# Altium footprint library Passive.PcbLib: 74 footprints (part 3 of 5)
Each footprint in its own frame and in the unit in brackets; x right, y up, seen from the top. Pads: shape width x height; smd on the part's side, far side on the other; paste and mask are expansions set on the pad; w line width, h text height; cw(c..) or ccw(c..) is an arc to the next point about the centre after c.
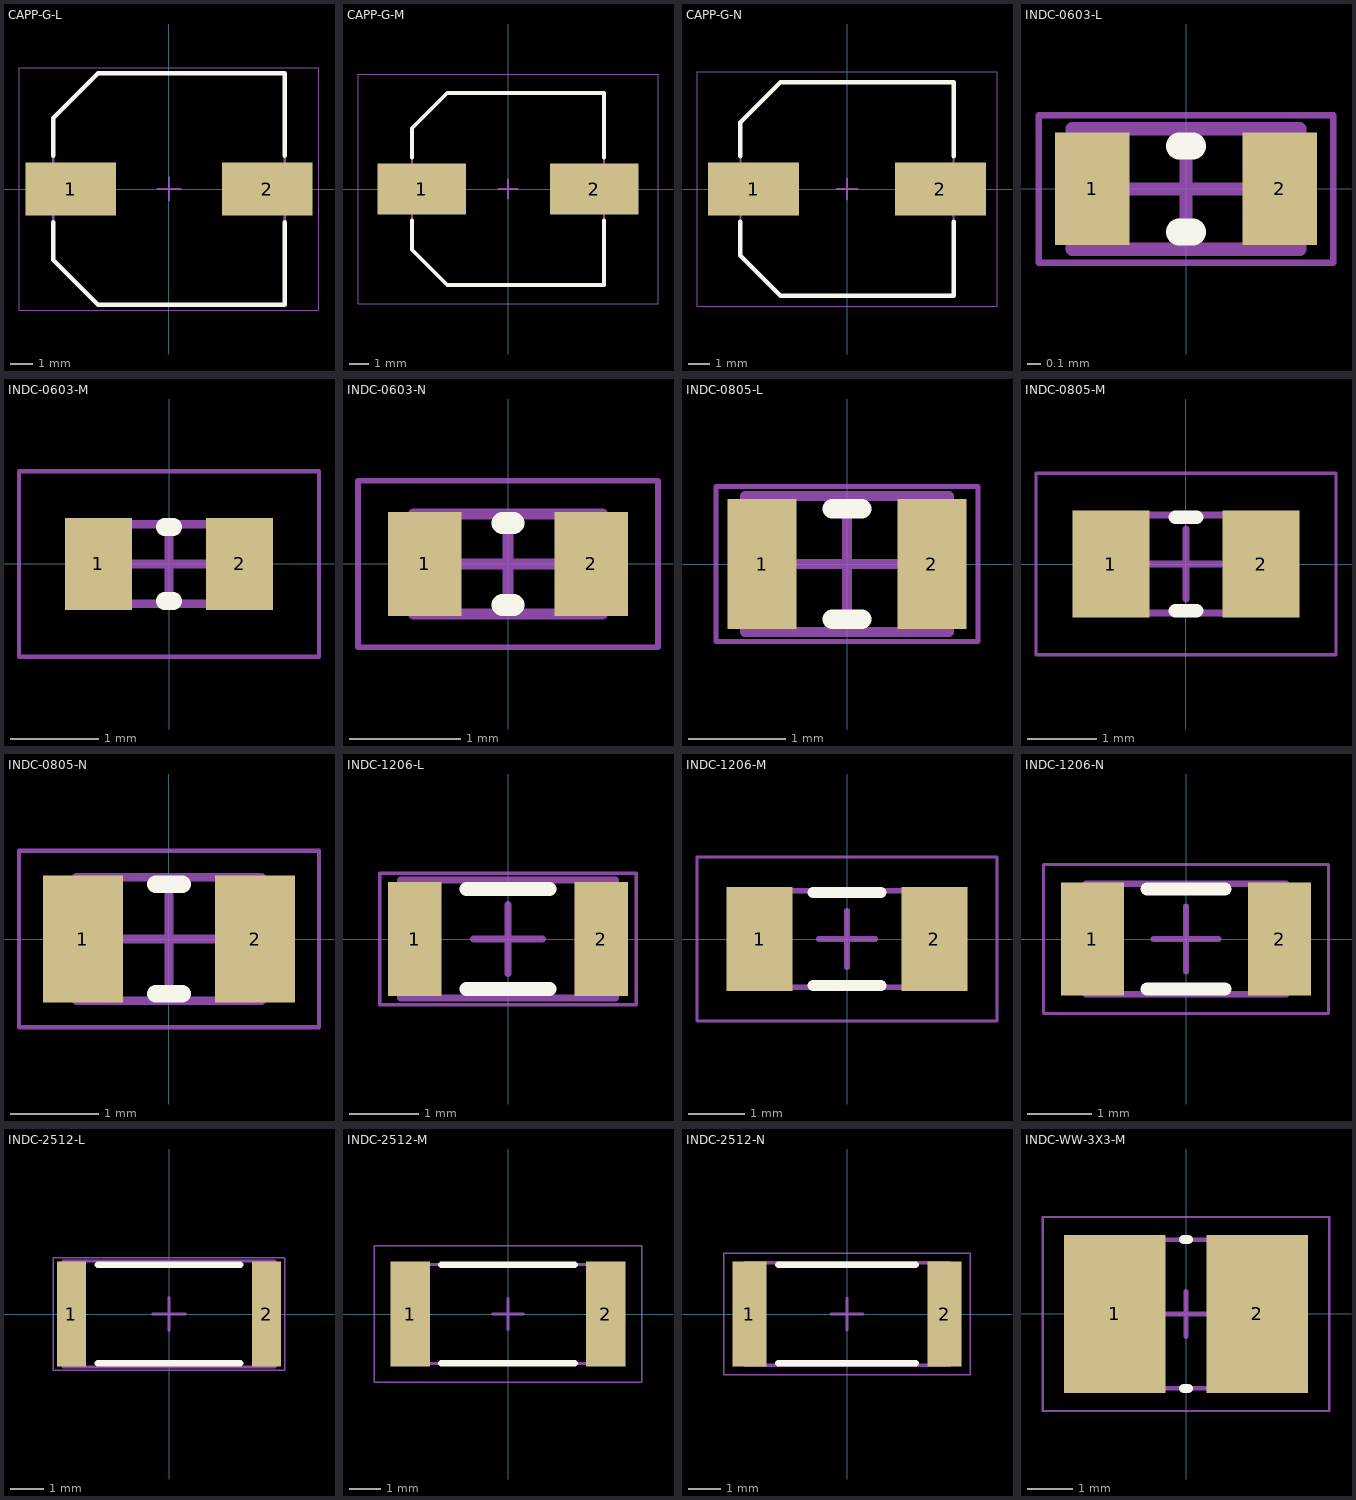
[diagram p2: the footprints below, top view; thin cyan lines are the x and y axes]

## CAPP-G-L [mm] "Aluminum Electrolytic Capacitor, Body 10.30x10.30x10.50mm, IPC High Density"
height 10.5
pads (2):
  rect 3.95x2.3 smd: 1(-4.3,0) 2(4.3,0)
Top Overlay:
  lines w0.2: -5.05,-1.45 -5.05,-3.1 -3.1,-5.05 5.05,-5.05 5.05,-1.45 ; -5.05,1.45 -5.05,3.1 -3.1,5.05 5.05,5.05 5.05,1.45
Mechanical 13:
  lines w0.1: -5.05,-3.1 -3.1,-5.05 5.05,-5.05 5.05,5.05 -3.1,5.05 -5.05,3.1 -5.05,-3.1
Mechanical 15:
  lines w0.05: -6.55,-5.3 -6.55,5.3 6.55,5.3 6.55,-5.3 -6.55,-5.3
  lines w0.1: -0.5,0 0.5,0 ; 0,-0.5 0,0.5
3D body "CAPP-D-L.step": height 10.5, standoff 0, extent -5.8,-5.05 5.8,5.05

## CAPP-G-M [mm] "Aluminum Electrolytic Capacitor, Body 10.30x10.30x10.50mm, IPC Low Density"
height 10.5
pads (2):
  rect 4.65x2.7 smd: 1(-4.55,0) 2(4.55,0)
Top Overlay:
  lines w0.2: -5.05,-1.65 -5.05,-3.2 -3.2,-5.05 5.05,-5.05 5.05,-1.65 ; -5.05,1.65 -5.05,3.2 -3.2,5.05 5.05,5.05 5.05,1.65
Mechanical 13:
  lines w0.1: -5.05,-3.2 -5.05,3.2 -3.2,5.05 5.05,5.05 5.05,-5.05 -3.2,-5.05 -5.05,-3.2
Mechanical 15:
  lines w0.05: -7.9,-6.05 7.9,-6.05 7.9,6.05 -7.9,6.05 -7.9,-6.05
  lines w0.1: -0.5,0 0.5,0 ; 0,-0.5 0,0.5
3D body "CAPAE116103X105M.step": height 10.5, standoff 0, extent -5.8,-5.05 5.8,5.05

## CAPP-G-N [mm] "Aluminum Electrolytic Capacitor, Body 10.30x10.30x10.50mm, IPC Medium Density"
height 10.5
pads (2):
  rect 4.3x2.5 smd: 1(-4.425,0) 2(4.425,0)
Top Overlay:
  lines w0.2: -5.05,-1.55 -5.05,-3.15 -3.15,-5.05 5.05,-5.05 5.05,-1.55 ; -5.05,1.55 -5.05,3.15 -3.15,5.05 5.05,5.05 5.05,1.55
Mechanical 13:
  lines w0.1: -5.05,-3.15 -3.15,-5.05 5.05,-5.05 5.05,5.05 -3.15,5.05 -5.05,3.15 -5.05,-3.15
Mechanical 15:
  lines w0.05: -7.1,-5.55 -7.1,5.55 7.1,5.55 7.1,-5.55 -7.1,-5.55
  lines w0.1: -0.5,0 0.5,0 ; 0,-0.5 0,0.5
3D body "CAPP-D-N.step": height 10.5, standoff 0, extent -5.8,-5.05 5.8,5.05

## INDC-0603-L [mm] "Chip Inductor, 2-Leads, Body 1.60x0.80mm, IPC High Density"
height 0.45
pads (2):
  rect 0.56x0.84 smd: 1(-0.7,0) 2(0.7,0)
Top Overlay:
  lines w0.2: -0.05,-0.32 0.05,-0.32 ; -0.05,0.32 0.05,0.32
Mechanical 13:
  lines w0.1: -0.85,-0.45 0.85,-0.45 0.85,0.45 -0.85,0.45 -0.85,-0.45
Mechanical 15:
  lines w0.05: -1.1,-0.55 1.1,-0.55 1.1,0.55 -1.1,0.55 -1.1,-0.55
  lines w0.1: -0.45,0 0.45,0 ; 0,-0.45 0,0.45
3D body "INDC-0603-L.step": height 0.45, standoff 0, extent -0.85,-0.45 0.85,0.45

## INDC-0603-M [mm] "Chip Inductor, 2-Leads, Body 1.60x0.80mm, IPC Low Density"
height 0.45
pads (2):
  rect 0.76x1.04 smd: 1(-0.8,0) 2(0.8,0)
Top Overlay:
  lines w0.2: -0.05,-0.42 0.05,-0.42 ; -0.05,0.42 0.05,0.42
Mechanical 13:
  lines w0.1: -0.85,-0.45 0.85,-0.45 0.85,0.45 -0.85,0.45 -0.85,-0.45
Mechanical 15:
  lines w0.05: -1.7,-1.05 1.7,-1.05 1.7,1.05 -1.7,1.05 -1.7,-1.05
  lines w0.1: -0.45,0 0.45,0 ; 0,-0.45 0,0.45
3D body "INDC-0603-M.step": height 0.45, standoff 0, extent -0.85,-0.45 0.85,0.45

## INDC-0603-N [mm] "Chip Inductor, 2-Leads, Body 1.60x0.80mm, IPC Medium Density"
height 0.45
pads (2):
  rect 0.66x0.94 smd: 1(-0.75,0) 2(0.75,0)
Top Overlay:
  lines w0.2: -0.05,-0.37 0.05,-0.37 ; -0.05,0.37 0.05,0.37
Mechanical 13:
  lines w0.1: -0.85,-0.45 -0.85,0.45 0.85,0.45 0.85,-0.45 -0.85,-0.45
Mechanical 15:
  lines w0.05: -1.35,-0.75 -1.35,0.75 1.35,0.75 1.35,-0.75 -1.35,-0.75
  lines w0.1: -0.45,0 0.45,0 ; 0,-0.45 0,0.45
3D body "INDC-0603-N.step": height 0.45, standoff 0, extent -0.85,-0.45 0.85,0.45

## INDC-0805-L [mm] "Chip Inductor, 2-Leads, Body 2.00x1.30mm, IPC High Density"
height 0.6
pads (2):
  rect 0.71x1.34 smd: 1(-0.875,0) 2(0.875,0)
Top Overlay:
  lines w0.2: -0.15,-0.57 0.15,-0.57 ; -0.15,0.57 0.15,0.57
Mechanical 13:
  lines w0.1: -1.05,-0.7 1.05,-0.7 1.05,0.7 -1.05,0.7 -1.05,-0.7
Mechanical 15:
  lines w0.05: -1.35,-0.8 1.35,-0.8 1.35,0.8 -1.35,0.8 -1.35,-0.8
  lines w0.1: -0.5,0 0.5,0 ; 0,-0.5 0,0.5
3D body "INDC-0805-L.step": height 0.6, standoff 0, extent -1.05,-0.7 1.05,0.7

## INDC-0805-M [mm] "Chip Inductor, 2-Leads, Body 2.00x1.30mm, IPC Low Density"
height 0.6
pads (2):
  rect 1.11x1.54 smd: 1(-1.075,0) 2(1.075,0)
Top Overlay:
  lines w0.2: -0.15,-0.67 0.15,-0.67 ; -0.15,0.67 0.15,0.67
Mechanical 13:
  lines w0.1: -1.05,-0.7 -1.05,0.7 1.05,0.7 1.05,-0.7 -1.05,-0.7
Mechanical 15:
  lines w0.05: -2.15,-1.3 -2.15,1.3 2.15,1.3 2.15,-1.3 -2.15,-1.3
  lines w0.1: -0.5,0 0.5,0 ; 0,-0.5 0,0.5
3D body "INDC-0805-M.step": height 0.6, standoff 0, extent -1.05,-0.7 1.05,0.7

## INDC-0805-N [mm] "Chip Inductor, 2-Leads, Body 2.00x1.30mm, IPC Medium Density"
height 0.6
pads (2):
  rect 0.91x1.44 smd: 1(-0.975,0) 2(0.975,0)
Top Overlay:
  lines w0.2: -0.15,-0.62 0.15,-0.62 ; -0.15,0.62 0.15,0.62
Mechanical 13:
  lines w0.1: -1.05,-0.7 1.05,-0.7 1.05,0.7 -1.05,0.7 -1.05,-0.7
Mechanical 15:
  lines w0.05: -1.7,-1 1.7,-1 1.7,1 -1.7,1 -1.7,-1
  lines w0.1: -0.5,0 0.5,0 ; 0,-0.5 0,0.5
3D body "INDC-0805-N.step": height 0.6, standoff 0, extent -1.05,-0.7 1.05,0.7

## INDC-1206-L [mm] "Chip Inductor, 2-Leads, Body 3.05x1.60mm, IPC High Density"
height 0.6
pads (2):
  rect 0.77x1.64 smd: 1(-1.345,0) 2(1.345,0)
Top Overlay:
  lines w0.2: -0.6,-0.72 0.6,-0.72 ; -0.6,0.72 0.6,0.72
Mechanical 13:
  lines w0.1: -1.55,-0.85 -1.55,0.85 1.55,0.85 1.55,-0.85 -1.55,-0.85
Mechanical 15:
  lines w0.05: -1.85,-0.95 -1.85,0.95 1.85,0.95 1.85,-0.95 -1.85,-0.95
  lines w0.1: -0.5,0 0.5,0 ; 0,-0.5 0,0.5
3D body "INDC-1206-L.step": height 0.6, standoff 0, extent -1.55,-0.85 1.55,0.85

## INDC-1206-M [mm] "Chip Inductor, 2-Leads, Body 3.05x1.60mm, IPC Low Density"
height 0.6
pads (2):
  rect 1.17x1.84 smd: 1(-1.545,0) 2(1.545,0)
Top Overlay:
  lines w0.2: -0.6,-0.82 0.6,-0.82 ; -0.6,0.82 0.6,0.82
Mechanical 13:
  lines w0.1: -1.55,-0.85 1.55,-0.85 1.55,0.85 -1.55,0.85 -1.55,-0.85
Mechanical 15:
  lines w0.05: -2.65,-1.45 2.65,-1.45 2.65,1.45 -2.65,1.45 -2.65,-1.45
  lines w0.1: -0.5,0 0.5,0 ; 0,-0.5 0,0.5
3D body "INDC-1206-M.step": height 0.6, standoff 0, extent -1.55,-0.85 1.55,0.85

## INDC-1206-N [mm] "Chip Inductor, 2-Leads, Body 3.05x1.60mm, IPC Medium Density"
height 0.6
pads (2):
  rect 0.97x1.74 smd: 1(-1.445,0) 2(1.445,0)
Top Overlay:
  lines w0.2: -0.6,-0.77 0.6,-0.77 ; -0.6,0.77 0.6,0.77
Mechanical 13:
  lines w0.1: -1.55,-0.85 -1.55,0.85 1.55,0.85 1.55,-0.85 -1.55,-0.85
Mechanical 15:
  lines w0.05: -2.2,-1.15 -2.2,1.15 2.2,1.15 2.2,-1.15 -2.2,-1.15
  lines w0.1: -0.5,0 0.5,0 ; 0,-0.5 0,0.5
3D body "INDC-1206-N.step": height 0.6, standoff 0, extent -1.55,-0.85 1.55,0.85

## INDC-2512-L [mm] "Chip Inductor, 2-Leads, Body 6.35x3.15mm, IPC High Density"
height 0.6
pads (2):
  rect 0.87x3.17 smd: 1(-2.945,0) 2(2.945,0)
Top Overlay:
  lines w0.2: -2.15,-1.485 2.15,-1.485 ; -2.15,1.485 2.15,1.485
Mechanical 13:
  lines w0.1: -3.2,-1.6 -3.2,1.6 3.2,1.6 3.2,-1.6 -3.2,-1.6
Mechanical 15:
  lines w0.05: -3.5,-1.7 -3.5,1.7 3.5,1.7 3.5,-1.7 -3.5,-1.7
  lines w0.1: -0.5,0 0.5,0 ; 0,-0.5 0,0.5
3D body "INDC-2512-L.step": height 0.6, standoff 0, extent -3.2,-1.6 3.2,1.6

## INDC-2512-M [mm] "Chip Inductor, 2-Leads, Body 6.35x3.15mm, IPC Low Density"
height 0.6
pads (2):
  rect 1.27x3.37 smd: 1(-3.145,0) 2(3.145,0)
Top Overlay:
  lines w0.2: -2.15,-1.585 2.15,-1.585 ; -2.15,1.585 2.15,1.585
Mechanical 13:
  lines w0.1: -3.2,-1.6 -3.2,1.6 3.2,1.6 3.2,-1.6 -3.2,-1.6
Mechanical 15:
  lines w0.05: -4.3,-2.2 -4.3,2.2 4.3,2.2 4.3,-2.2 -4.3,-2.2
  lines w0.1: -0.5,0 0.5,0 ; 0,-0.5 0,0.5
3D body "INDC-2512-M.step": height 0.6, standoff 0, extent -3.2,-1.6 3.2,1.6

## INDC-2512-N [mm] "Chip Inductor, 2-Leads, Body 6.35x3.15mm, IPC Medium Density"
height 0.6
pads (2):
  rect 1.07x3.27 smd: 1(-3.045,0) 2(3.045,0)
Top Overlay:
  lines w0.2: -2.15,-1.535 2.15,-1.535 ; -2.15,1.535 2.15,1.535
Mechanical 13:
  lines w0.1: -3.2,-1.6 3.2,-1.6 3.2,1.6 -3.2,1.6 -3.2,-1.6
Mechanical 15:
  lines w0.05: -3.85,-1.9 3.85,-1.9 3.85,1.9 -3.85,1.9 -3.85,-1.9
  lines w0.1: -0.5,0 0.5,0 ; 0,-0.5 0,0.5
3D body "INDC-2512-N.step": height 0.6, standoff 0, extent -3.2,-1.6 3.2,1.6

## INDC-WW-3X3-M [mm] "Precision Wire Wound Inductor, 2-Leads, Body 3.30x3.00mm, IPC Low Density"
height 2.1
pads (2):
  rect 2.25x3.5 smd: 1(-1.575,0) 2(1.575,0)
Top Overlay:
  lines w0.2: -0.05,-1.65 0.05,-1.65 ; -0.05,1.65 0.05,1.65
Mechanical 13:
  lines w0.1: -1.8,-1.65 1.8,-1.65 1.8,1.65 -1.8,1.65 -1.8,-1.65
Mechanical 15:
  lines w0.05: -3.175,-2.15 3.175,-2.15 3.175,2.15 -3.175,2.15 -3.175,-2.15
  lines w0.1: -0.5,0 0.5,0 ; 0,-0.5 0,0.5
3D body "INDC-WW-3X3-M.step": height 2.2, standoff 0, extent -1.75,-1.65 1.75,1.65